# Altium integrated library Philips Discrete JFET.IntLib: 50 symbols
Pins are listed as number, name and electrical type; pins without a type are passive.

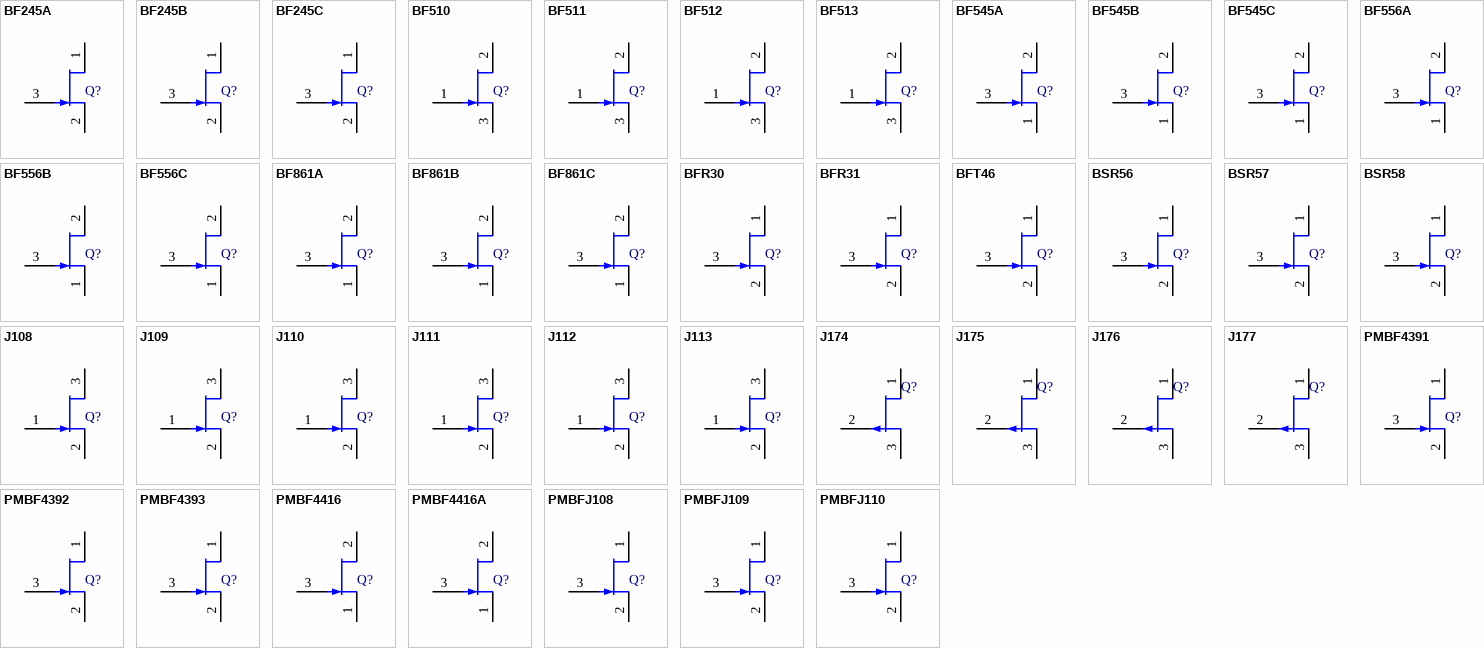
[diagram p0: symbols BF245A to PMBFJ110]

## BF245A
designator Q?
N-channel Silicon Junction Field-effect Transistor; Published: 17-Sep-2003; DatasheetVersion: 30-Jul-1996; PackageVersion: rev3, May-2000; PackageReference: SOT54; Publisher: Altium Limited; PackageDescription: TO, Flat Index; 3 In-Line, Axial Leads; Body Dia. 4.6mm; Leads 0.48 x 0.45 mm (max); Code_JEDEC: TO-92; ComponentLink1Description: Manufacturer Link; ComponentLink1URL: http://www.semiconductors.philips.com/; ComponentLink2Description: Datasheet; ComponentLink2URL: http://www.semiconductors.philips.com/acrobat/datasheets/BF245A-B-C_2.pdf
footprint SOT54 (TO, Flat Index; 3 In-Line, Axial Leads; Body Dia. 4.6mm; Leads 0.48 x 0.45 mm (max))
simulation model BF245A (NJFET)
pins: 1 D, 2 S, 3 G

## BF245B
designator Q?
N-channel Silicon Junction Field-effect Transistor; Published: 17-Sep-2003; DatasheetVersion: 30-Jul-1996; PackageVersion: rev3, May-2000; PackageReference: SOT54; Publisher: Altium Limited; PackageDescription: TO, Flat Index; 3 In-Line, Axial Leads; Body Dia. 4.6mm; Leads 0.48 x 0.45 mm (max); Code_JEDEC: TO-92; ComponentLink1Description: Manufacturer Link; ComponentLink1URL: http://www.semiconductors.philips.com/; ComponentLink2Description: Datasheet; ComponentLink2URL: http://www.semiconductors.philips.com/acrobat/datasheets/BF245A-B-C_2.pdf
footprint SOT54 (TO, Flat Index; 3 In-Line, Axial Leads; Body Dia. 4.6mm; Leads 0.48 x 0.45 mm (max))
simulation model BF245B (NJFET)
pins: 1 D, 2 S, 3 G

## BF245C
designator Q?
N-channel Silicon Junction Field-effect Transistor; Published: 17-Sep-2003; DatasheetVersion: 30-Jul-1996; PackageVersion: rev3, May-2000; PackageReference: SOT54; Publisher: Altium Limited; PackageDescription: TO, Flat Index; 3 In-Line, Axial Leads; Body Dia. 4.6mm; Leads 0.48 x 0.45 mm (max); Code_JEDEC: TO-92; ComponentLink1Description: Manufacturer Link; ComponentLink1URL: http://www.semiconductors.philips.com/; ComponentLink2Description: Datasheet; ComponentLink2URL: http://www.semiconductors.philips.com/acrobat/datasheets/BF245A-B-C_2.pdf
footprint SOT54 (TO, Flat Index; 3 In-Line, Axial Leads; Body Dia. 4.6mm; Leads 0.48 x 0.45 mm (max))
simulation model BF245C (NJFET)
pins: 1 D, 2 S, 3 G

## BF510
designator Q?
N-channel Silicon Junction Field-effect Transistor; Published: 17-Sep-2003; DatasheetVersion: Dec-1997; PackageVersion: May-1999; PackageReference: SOT23; Publisher: Altium Limited; PackageDescription: SOT-23; 3 Leads; Body 3.0 x 2.5 mm, inc. leads (LxW max); ComponentLink1Description: Manufacturer Link; ComponentLink1URL: http://www.semiconductors.philips.com/; ComponentLink2Description: Datasheet; ComponentLink2URL: http://www.semiconductors.philips.com/acrobat/datasheets/BF510_511_512_513_CNV_2.pdf
footprint SOT23 (SOT-23; 3 Leads; Body 3.0 x 2.5 mm, inc. leads (LxW max))
simulation model BF510 (NJFET)
pins: 1 G, 2 D, 3 S

## BF511
designator Q?
N-channel Silicon Junction Field-effect Transistor; Published: 17-Sep-2003; DatasheetVersion: Dec-1997; PackageVersion: May-1999; PackageReference: SOT23; Publisher: Altium Limited; PackageDescription: SOT-23; 3 Leads; Body 3.0 x 2.5 mm, inc. leads (LxW max); ComponentLink1Description: Manufacturer Link; ComponentLink1URL: http://www.semiconductors.philips.com/; ComponentLink2Description: Datasheet; ComponentLink2URL: http://www.semiconductors.philips.com/acrobat/datasheets/BF510_511_512_513_CNV_2.pdf
footprint SOT23 (SOT-23; 3 Leads; Body 3.0 x 2.5 mm, inc. leads (LxW max))
simulation model BF511 (NJFET)
pins: 1 G, 2 D, 3 S

## BF512
designator Q?
N-channel Silicon Junction Field-effect Transistor; Published: 17-Sep-2003; DatasheetVersion: Dec-1997; PackageVersion: May-1999; PackageReference: SOT23; Publisher: Altium Limited; PackageDescription: SOT-23; 3 Leads; Body 3.0 x 2.5 mm, inc. leads (LxW max); ComponentLink1Description: Manufacturer Link; ComponentLink1URL: http://www.semiconductors.philips.com/; ComponentLink2Description: Datasheet; ComponentLink2URL: http://www.semiconductors.philips.com/acrobat/datasheets/BF510_511_512_513_CNV_2.pdf
footprint SOT23 (SOT-23; 3 Leads; Body 3.0 x 2.5 mm, inc. leads (LxW max))
simulation model BF512 (NJFET)
pins: 1 G, 2 D, 3 S

## BF513
designator Q?
N-channel Silicon Junction Field-effect Transistor; Published: 17-Sep-2003; DatasheetVersion: Dec-1997; PackageVersion: May-1999; PackageReference: SOT23; Publisher: Altium Limited; PackageDescription: SOT-23; 3 Leads; Body 3.0 x 2.5 mm, inc. leads (LxW max); ComponentLink1Description: Manufacturer Link; ComponentLink1URL: http://www.semiconductors.philips.com/; ComponentLink2Description: Datasheet; ComponentLink2URL: http://www.semiconductors.philips.com/acrobat/datasheets/BF510_511_512_513_CNV_2.pdf
footprint SOT23 (SOT-23; 3 Leads; Body 3.0 x 2.5 mm, inc. leads (LxW max))
simulation model BF513 (NJFET)
pins: 1 G, 2 D, 3 S

## BF545A
designator Q?
N-channel Silicon Junction Field-effect Transistor; Published: 17-Sep-2003; DatasheetVersion: 29-Jul-1996; PackageVersion: May-1999; PackageReference: SOT23; Publisher: Altium Limited; PackageDescription: SOT-23; 3 Leads; Body 3.0 x 2.5 mm, inc. leads (LxW max); ComponentLink1Description: Manufacturer Link; ComponentLink1URL: http://www.semiconductors.philips.com/; ComponentLink2Description: Datasheet; ComponentLink2URL: http://www.semiconductors.philips.com/acrobat/datasheets/BF545A_BF545B_BF545C_3.pdf
footprint SOT23 (SOT-23; 3 Leads; Body 3.0 x 2.5 mm, inc. leads (LxW max))
simulation model BF545A (NJFET)
pins: 1 S, 2 D, 3 G

## BF545B
designator Q?
N-channel Silicon Junction Field-effect Transistor; Published: 17-Sep-2003; DatasheetVersion: 29-Jul-1996; PackageVersion: May-1999; PackageReference: SOT23; Publisher: Altium Limited; PackageDescription: SOT-23; 3 Leads; Body 3.0 x 2.5 mm, inc. leads (LxW max); ComponentLink1Description: Manufacturer Link; ComponentLink1URL: http://www.semiconductors.philips.com/; ComponentLink2Description: Datasheet; ComponentLink2URL: http://www.semiconductors.philips.com/acrobat/datasheets/BF545A_BF545B_BF545C_3.pdf
footprint SOT23 (SOT-23; 3 Leads; Body 3.0 x 2.5 mm, inc. leads (LxW max))
simulation model BF545B (NJFET)
pins: 1 S, 2 D, 3 G

## BF545C
designator Q?
N-channel Silicon Junction Field-effect Transistor; Published: 17-Sep-2003; DatasheetVersion: 29-Jul-1996; PackageVersion: May-1999; PackageReference: SOT23; Publisher: Altium Limited; PackageDescription: SOT-23; 3 Leads; Body 3.0 x 2.5 mm, inc. leads (LxW max); ComponentLink1Description: Manufacturer Link; ComponentLink1URL: http://www.semiconductors.philips.com/; ComponentLink2Description: Datasheet; ComponentLink2URL: http://www.semiconductors.philips.com/acrobat/datasheets/BF545A_BF545B_BF545C_3.pdf
footprint SOT23 (SOT-23; 3 Leads; Body 3.0 x 2.5 mm, inc. leads (LxW max))
simulation model BF545C (NJFET)
pins: 1 S, 2 D, 3 G

## BF556A
designator Q?
N-channel Silicon Junction Field-effect Transistor; Published: 17-Sep-2003; DatasheetVersion: 29-Jul-1996; PackageVersion: May-1999; PackageReference: SOT23; Publisher: Altium Limited; PackageDescription: SOT-23; 3 Leads; Body 3.0 x 2.5 mm, inc. leads (LxW max); ComponentLink1Description: Manufacturer Link; ComponentLink1URL: http://www.semiconductors.philips.com/; ComponentLink2Description: Datasheet; ComponentLink2URL: http://www.semiconductors.philips.com/acrobat/datasheets/BF556A_BF556B_BF556C_3.pdf
footprint SOT23 (SOT-23; 3 Leads; Body 3.0 x 2.5 mm, inc. leads (LxW max))
simulation model BF556A (NJFET)
pins: 1 S, 2 D, 3 G

## BF556B
designator Q?
N-channel Silicon Junction Field-effect Transistor; Published: 17-Sep-2003; DatasheetVersion: 29-Jul-1996; PackageVersion: May-1999; PackageReference: SOT23; Publisher: Altium Limited; PackageDescription: SOT-23; 3 Leads; Body 3.0 x 2.5 mm, inc. leads (LxW max); ComponentLink1Description: Manufacturer Link; ComponentLink1URL: http://www.semiconductors.philips.com/; ComponentLink2Description: Datasheet; ComponentLink2URL: http://www.semiconductors.philips.com/acrobat/datasheets/BF556A_BF556B_BF556C_3.pdf
footprint SOT23 (SOT-23; 3 Leads; Body 3.0 x 2.5 mm, inc. leads (LxW max))
simulation model BF556B (NJFET)
pins: 1 S, 2 D, 3 G

## BF556C
designator Q?
N-channel Silicon Junction Field-effect Transistor; Published: 17-Sep-2003; DatasheetVersion: 29-Jul-1996; PackageVersion: May-1999; PackageReference: SOT23; Publisher: Altium Limited; PackageDescription: SOT-23; 3 Leads; Body 3.0 x 2.5 mm, inc. leads (LxW max); ComponentLink1Description: Manufacturer Link; ComponentLink1URL: http://www.semiconductors.philips.com/; ComponentLink2Description: Datasheet; ComponentLink2URL: http://www.semiconductors.philips.com/acrobat/datasheets/BF556A_BF556B_BF556C_3.pdf
footprint SOT23 (SOT-23; 3 Leads; Body 3.0 x 2.5 mm, inc. leads (LxW max))
pins: 1 S, 2 D, 3 G

## BF861A
designator Q?
N-channel Junction Field-effect Transistor; Published: 17-Sep-2003; DatasheetVersion: 4-Sep-1997; PackageVersion: May-1999; PackageReference: SOT23; Publisher: Altium Limited; PackageDescription: SOT-23; 3 Leads; Body 3.0 x 2.5 mm, inc. leads (LxW max); ComponentLink1Description: Manufacturer Link; ComponentLink1URL: http://www.semiconductors.philips.com/; ComponentLink2Description: Datasheet; ComponentLink2URL: http://www.semiconductors.philips.com/acrobat/datasheets/BF861A_BF861B_BF861C_4.pdf
footprint SOT23 (SOT-23; 3 Leads; Body 3.0 x 2.5 mm, inc. leads (LxW max))
simulation model BF861A (NJFET)
pins: 1 S, 2 D, 3 G

## BF861B
designator Q?
N-channel Junction Field-effect Transistor; Published: 17-Sep-2003; DatasheetVersion: 4-Sep-1997; PackageVersion: May-1999; PackageReference: SOT23; Publisher: Altium Limited; PackageDescription: SOT-23; 3 Leads; Body 3.0 x 2.5 mm, inc. leads (LxW max); ComponentLink1Description: Manufacturer Link; ComponentLink1URL: http://www.semiconductors.philips.com/; ComponentLink2Description: Datasheet; ComponentLink2URL: http://www.semiconductors.philips.com/acrobat/datasheets/BF861A_BF861B_BF861C_4.pdf
footprint SOT23 (SOT-23; 3 Leads; Body 3.0 x 2.5 mm, inc. leads (LxW max))
simulation model BF861B (NJFET)
pins: 1 S, 2 D, 3 G

## BF861C
designator Q?
N-channel Junction Field-effect Transistor; Published: 17-Sep-2003; DatasheetVersion: 4-Sep-1997; PackageVersion: May-1999; PackageReference: SOT23; Publisher: Altium Limited; PackageDescription: SOT-23; 3 Leads; Body 3.0 x 2.5 mm, inc. leads (LxW max); ComponentLink1Description: Manufacturer Link; ComponentLink1URL: http://www.semiconductors.philips.com/; ComponentLink2Description: Datasheet; ComponentLink2URL: http://www.semiconductors.philips.com/acrobat/datasheets/BF861A_BF861B_BF861C_4.pdf
footprint SOT23 (SOT-23; 3 Leads; Body 3.0 x 2.5 mm, inc. leads (LxW max))
simulation model BF861C (NJFET)
pins: 1 S, 2 D, 3 G

## BFR30
designator Q?
N-channel Junction Field-effect Transistors; Published: 17-Sep-2003; DatasheetVersion: 5-Dec-1997; PackageVersion: May-1999; PackageReference: SOT23; Publisher: Altium Limited; PackageDescription: SOT-23; 3 Leads; Body 3.0 x 2.5 mm, inc. leads (LxW max); ComponentLink1Description: Manufacturer Link; ComponentLink1URL: http://www.semiconductors.philips.com/; ComponentLink2Description: Datasheet; ComponentLink2URL: http://www.semiconductors.philips.com/acrobat/datasheets/BFR30-31_2.pdf
footprint SOT23 (SOT-23; 3 Leads; Body 3.0 x 2.5 mm, inc. leads (LxW max))
simulation model BFR30 (NJFET)
pins: 1 D, 2 S, 3 G

## BFR31
designator Q?
N-channel Junction Field-effect Transistors; Published: 17-Sep-2003; DatasheetVersion: 5-Dec-1997; PackageVersion: May-1999; PackageReference: SOT23; Publisher: Altium Limited; PackageDescription: SOT-23; 3 Leads; Body 3.0 x 2.5 mm, inc. leads (LxW max); ComponentLink1Description: Manufacturer Link; ComponentLink1URL: http://www.semiconductors.philips.com/; ComponentLink2Description: Datasheet; ComponentLink2URL: http://www.semiconductors.philips.com/acrobat/datasheets/BFR30-31_2.pdf
footprint SOT23 (SOT-23; 3 Leads; Body 3.0 x 2.5 mm, inc. leads (LxW max))
simulation model BFR31 (NJFET)
pins: 1 D, 2 S, 3 G

## BFT46
designator Q?
N-channel Silicon Junction Field-effect Transistor; Published: 17-Sep-2003; DatasheetVersion: Dec-1997; PackageVersion: May-1999; PackageReference: SOT23; Publisher: Altium Limited; PackageDescription: SOT-23; 3 Leads; Body 3.0 x 2.5 mm, inc. leads (LxW max); ComponentLink1Description: Manufacturer Link; ComponentLink1URL: http://www.semiconductors.philips.com/; ComponentLink2Description: Datasheet; ComponentLink2URL: http://www.semiconductors.philips.com/acrobat/datasheets/BFT46_CNV_2.pdf
footprint SOT23 (SOT-23; 3 Leads; Body 3.0 x 2.5 mm, inc. leads (LxW max))
simulation model BFT46 (NJFET)
pins: 1 D, 2 S, 3 G

## BSR56
designator Q?
N-channel Silicon Junction Field-effect Transistor; Published: 17-Sep-2003; DatasheetVersion: Apr-1991; PackageVersion: May-1999; PackageReference: SOT23; Publisher: Altium Limited; PackageDescription: SOT-23; 3 Leads; Body 3.0 x 2.5 mm, inc. leads (LxW max); ComponentLink1Description: Manufacturer Link; ComponentLink1URL: http://www.semiconductors.philips.com/; ComponentLink2Description: Datasheet; ComponentLink2URL: http://www.semiconductors.philips.com/acrobat/datasheets/BSR56_57_58_CNV_2.pdf
footprint SOT23 (SOT-23; 3 Leads; Body 3.0 x 2.5 mm, inc. leads (LxW max))
simulation model BSR56 (NJFET)
pins: 1 D, 2 S, 3 G

## BSR57
designator Q?
N-channel Silicon Junction Field-effect Transistor; Published: 17-Sep-2003; DatasheetVersion: Apr-1991; PackageVersion: May-1999; PackageReference: SOT23; Publisher: Altium Limited; PackageDescription: SOT-23; 3 Leads; Body 3.0 x 2.5 mm, inc. leads (LxW max); ComponentLink1Description: Manufacturer Link; ComponentLink1URL: http://www.semiconductors.philips.com/; ComponentLink2Description: Datasheet; ComponentLink2URL: http://www.semiconductors.philips.com/acrobat/datasheets/BSR56_57_58_CNV_2.pdf
footprint SOT23 (SOT-23; 3 Leads; Body 3.0 x 2.5 mm, inc. leads (LxW max))
simulation model BSR57 (NJFET)
pins: 1 D, 2 S, 3 G

## BSR58
designator Q?
N-channel Silicon Junction Field-effect Transistor; Published: 17-Sep-2003; DatasheetVersion: Apr-1991; PackageVersion: May-1999; PackageReference: SOT23; Publisher: Altium Limited; PackageDescription: SOT-23; 3 Leads; Body 3.0 x 2.5 mm, inc. leads (LxW max); ComponentLink1Description: Manufacturer Link; ComponentLink1URL: http://www.semiconductors.philips.com/; ComponentLink2Description: Datasheet; ComponentLink2URL: http://www.semiconductors.philips.com/acrobat/datasheets/BSR56_57_58_CNV_2.pdf
footprint SOT23 (SOT-23; 3 Leads; Body 3.0 x 2.5 mm, inc. leads (LxW max))
simulation model BSR58 (NJFET)
pins: 1 D, 2 S, 3 G

## J108
designator Q?
N-channel Silicon Junction Field-effect Transistor; Published: 17-Sep-2003; DatasheetVersion: 30-Jul-1996; PackageVersion: rev3, May-2000; PackageReference: SOT54; Publisher: Altium Limited; PackageDescription: TO, Flat Index; 3 In-Line, Axial Leads; Body Dia. 4.6mm; Leads 0.48 x 0.45 mm (max); Code_JEDEC: TO-92; ComponentLink1Description: Manufacturer Link; ComponentLink1URL: http://www.semiconductors.philips.com/; ComponentLink2Description: Datasheet; ComponentLink2URL: http://www.semiconductors.philips.com/acrobat/datasheets/J108-9-10_2.pdf
footprint SOT54 (TO, Flat Index; 3 In-Line, Axial Leads; Body Dia. 4.6mm; Leads 0.48 x 0.45 mm (max))
simulation model J108 (NJFET)
pins: 1 G, 2 S, 3 D

## J109
designator Q?
N-channel Silicon Junction Field-effect Transistor; Published: 17-Sep-2003; DatasheetVersion: 30-Jul-1996; PackageVersion: rev3, May-2000; PackageReference: SOT54; Publisher: Altium Limited; PackageDescription: TO, Flat Index; 3 In-Line, Axial Leads; Body Dia. 4.6mm; Leads 0.48 x 0.45 mm (max); Code_JEDEC: TO-92; ComponentLink1Description: Manufacturer Link; ComponentLink1URL: http://www.semiconductors.philips.com/; ComponentLink2Description: Datasheet; ComponentLink2URL: http://www.semiconductors.philips.com/acrobat/datasheets/J108-9-10_2.pdf
footprint SOT54 (TO, Flat Index; 3 In-Line, Axial Leads; Body Dia. 4.6mm; Leads 0.48 x 0.45 mm (max))
simulation model J109 (NJFET)
pins: 1 G, 2 S, 3 D

## J110
designator Q?
N-channel Silicon Junction Field-effect Transistor; Published: 17-Sep-2003; DatasheetVersion: 30-Jul-1996; PackageVersion: rev3, May-2000; PackageReference: SOT54; Publisher: Altium Limited; PackageDescription: TO, Flat Index; 3 In-Line, Axial Leads; Body Dia. 4.6mm; Leads 0.48 x 0.45 mm (max); Code_JEDEC: TO-92; ComponentLink1Description: Manufacturer Link; ComponentLink1URL: http://www.semiconductors.philips.com/; ComponentLink2Description: Datasheet; ComponentLink2URL: http://www.semiconductors.philips.com/acrobat/datasheets/J108-9-10_2.pdf
footprint SOT54 (TO, Flat Index; 3 In-Line, Axial Leads; Body Dia. 4.6mm; Leads 0.48 x 0.45 mm (max))
simulation model J110 (NJFET)
pins: 1 G, 2 S, 3 D

## J111
designator Q?
N-channel Silicon Junction Field-effect Transistor; Published: 17-Sep-2003; DatasheetVersion: Jul-1993; PackageVersion: rev3, May-2000; PackageReference: SOT54; Publisher: Altium Limited; PackageDescription: TO, Flat Index; 3 In-Line, Axial Leads; Body Dia. 4.6mm; Leads 0.48 x 0.45 mm (max); Code_JEDEC: TO-92; ComponentLink1Description: Manufacturer Link; ComponentLink1URL: http://www.semiconductors.philips.com/; ComponentLink2Description: Datasheet; ComponentLink2URL: http://www.semiconductors.philips.com/acrobat/datasheets/J111_112_113_CNV_2.pdf
footprint SOT54 (TO, Flat Index; 3 In-Line, Axial Leads; Body Dia. 4.6mm; Leads 0.48 x 0.45 mm (max))
simulation model J111 (NJFET)
pins: 1 G, 2 S, 3 D

## J112
designator Q?
N-channel Silicon Junction Field-effect Transistor; Published: 17-Sep-2003; DatasheetVersion: Jul-1993; PackageVersion: rev3, May-2000; PackageReference: SOT54; Publisher: Altium Limited; PackageDescription: TO, Flat Index; 3 In-Line, Axial Leads; Body Dia. 4.6mm; Leads 0.48 x 0.45 mm (max); Code_JEDEC: TO-92; ComponentLink1Description: Manufacturer Link; ComponentLink1URL: http://www.semiconductors.philips.com/; ComponentLink2Description: Datasheet; ComponentLink2URL: http://www.semiconductors.philips.com/acrobat/datasheets/J111_112_113_CNV_2.pdf
footprint SOT54 (TO, Flat Index; 3 In-Line, Axial Leads; Body Dia. 4.6mm; Leads 0.48 x 0.45 mm (max))
simulation model J112 (NJFET)
pins: 1 G, 2 S, 3 D

## J113
designator Q?
N-channel Silicon Junction Field-effect Transistor; Published: 17-Sep-2003; DatasheetVersion: Jul-1993; PackageVersion: rev3, May-2000; PackageReference: SOT54; Publisher: Altium Limited; PackageDescription: TO, Flat Index; 3 In-Line, Axial Leads; Body Dia. 4.6mm; Leads 0.48 x 0.45 mm (max); Code_JEDEC: TO-92; ComponentLink1Description: Manufacturer Link; ComponentLink1URL: http://www.semiconductors.philips.com/; ComponentLink2Description: Datasheet; ComponentLink2URL: http://www.semiconductors.philips.com/acrobat/datasheets/J111_112_113_CNV_2.pdf
footprint SOT54 (TO, Flat Index; 3 In-Line, Axial Leads; Body Dia. 4.6mm; Leads 0.48 x 0.45 mm (max))
simulation model J113 (NJFET)
pins: 1 G, 2 S, 3 D

## J174
designator Q?
P-channel Silicon Junction Field-effect Transistor; Published: 17-Sep-2003; DatasheetVersion: Apr-1995; PackageVersion: rev3, May-2000; PackageReference: SOT54; Publisher: Altium Limited; PackageDescription: TO, Flat Index; 3 In-Line, Axial Leads; Body Dia. 4.6mm; Leads 0.48 x 0.45 mm (max); Code_JEDEC: TO-92; ComponentLink1Description: Manufacturer Link; ComponentLink1URL: http://www.semiconductors.philips.com/; ComponentLink2Description: Datasheet; ComponentLink2URL: http://www.semiconductors.philips.com/acrobat/datasheets/J174_175_176_177_CNV_2.pdf
footprint SOT54 (TO, Flat Index; 3 In-Line, Axial Leads; Body Dia. 4.6mm; Leads 0.48 x 0.45 mm (max))
simulation model J174 (PJFET)
pins: 1 S, 2 G, 3 D

## J175
designator Q?
P-channel Silicon Junction Field-effect Transistor; Published: 17-Sep-2003; DatasheetVersion: Apr-1995; PackageVersion: rev3, May-2000; PackageReference: SOT54; Publisher: Altium Limited; PackageDescription: TO, Flat Index; 3 In-Line, Axial Leads; Body Dia. 4.6mm; Leads 0.48 x 0.45 mm (max); Code_JEDEC: TO-92; ComponentLink1Description: Manufacturer Link; ComponentLink1URL: http://www.semiconductors.philips.com/; ComponentLink2Description: Datasheet; ComponentLink2URL: http://www.semiconductors.philips.com/acrobat/datasheets/J174_175_176_177_CNV_2.pdf
footprint SOT54 (TO, Flat Index; 3 In-Line, Axial Leads; Body Dia. 4.6mm; Leads 0.48 x 0.45 mm (max))
simulation model J175 (PJFET)
pins: 1 S, 2 G, 3 D

## J176
designator Q?
P-channel Silicon Junction Field-effect Transistor; Published: 17-Sep-2003; DatasheetVersion: Apr-1995; PackageVersion: rev3, May-2000; PackageReference: SOT54; Publisher: Altium Limited; PackageDescription: TO, Flat Index; 3 In-Line, Axial Leads; Body Dia. 4.6mm; Leads 0.48 x 0.45 mm (max); Code_JEDEC: TO-92; ComponentLink1Description: Manufacturer Link; ComponentLink1URL: http://www.semiconductors.philips.com/; ComponentLink2Description: Datasheet; ComponentLink2URL: http://www.semiconductors.philips.com/acrobat/datasheets/J174_175_176_177_CNV_2.pdf
footprint SOT54 (TO, Flat Index; 3 In-Line, Axial Leads; Body Dia. 4.6mm; Leads 0.48 x 0.45 mm (max))
simulation model J176 (PJFET)
pins: 1 S, 2 G, 3 D

## J177
designator Q?
P-channel Silicon Junction Field-effect Transistor; Published: 17-Sep-2003; DatasheetVersion: Apr-1995; PackageVersion: rev3, May-2000; PackageReference: SOT54; Publisher: Altium Limited; PackageDescription: TO, Flat Index; 3 In-Line, Axial Leads; Body Dia. 4.6mm; Leads 0.48 x 0.45 mm (max); Code_JEDEC: TO-92; ComponentLink1Description: Manufacturer Link; ComponentLink1URL: http://www.semiconductors.philips.com/; ComponentLink2Description: Datasheet; ComponentLink2URL: http://www.semiconductors.philips.com/acrobat/datasheets/J174_175_176_177_CNV_2.pdf
footprint SOT54 (TO, Flat Index; 3 In-Line, Axial Leads; Body Dia. 4.6mm; Leads 0.48 x 0.45 mm (max))
simulation model J177 (PJFET)
pins: 1 S, 2 G, 3 D

## PMBF4391
designator Q?
N-channel Silicon Junction Field-effect Transistor; Published: 17-Sep-2003; DatasheetVersion: Apr-1995; PackageVersion: May-1999; PackageReference: SOT23; Publisher: Altium Limited; PackageDescription: SOT-23; 3 Leads; Body 3.0 x 2.5 mm, inc. leads (LxW max); ComponentLink1Description: Manufacturer Link; ComponentLink1URL: http://www.semiconductors.philips.com/; ComponentLink2Description: Datasheet; ComponentLink2URL: http://www.semiconductors.philips.com/acrobat/datasheets/PMBF4391_4392_4393_CNV_2.pdf
footprint SOT23 (SOT-23; 3 Leads; Body 3.0 x 2.5 mm, inc. leads (LxW max))
simulation model PMBF4391 (NJFET)
pins: 1 D, 2 S, 3 G

## PMBF4392
designator Q?
N-channel Silicon Junction Field-effect Transistor; Published: 17-Sep-2003; DatasheetVersion: Apr-1995; PackageVersion: May-1999; PackageReference: SOT23; Publisher: Altium Limited; PackageDescription: SOT-23; 3 Leads; Body 3.0 x 2.5 mm, inc. leads (LxW max); ComponentLink1Description: Manufacturer Link; ComponentLink1URL: http://www.semiconductors.philips.com/; ComponentLink2Description: Datasheet; ComponentLink2URL: http://www.semiconductors.philips.com/acrobat/datasheets/PMBF4391_4392_4393_CNV_2.pdf
footprint SOT23 (SOT-23; 3 Leads; Body 3.0 x 2.5 mm, inc. leads (LxW max))
simulation model PMBF4392 (NJFET)
pins: 1 D, 2 S, 3 G

## PMBF4393
designator Q?
N-channel Silicon Junction Field-effect Transistor; Published: 17-Sep-2003; DatasheetVersion: Apr-1995; PackageVersion: May-1999; PackageReference: SOT23; Publisher: Altium Limited; PackageDescription: SOT-23; 3 Leads; Body 3.0 x 2.5 mm, inc. leads (LxW max); ComponentLink1Description: Manufacturer Link; ComponentLink1URL: http://www.semiconductors.philips.com/; ComponentLink2Description: Datasheet; ComponentLink2URL: http://www.semiconductors.philips.com/acrobat/datasheets/PMBF4391_4392_4393_CNV_2.pdf
footprint SOT23 (SOT-23; 3 Leads; Body 3.0 x 2.5 mm, inc. leads (LxW max))
simulation model PMBF4393 (NJFET)
pins: 1 D, 2 S, 3 G

## PMBF4416
designator Q?
N-channel Silicon Junction Field-effect Transistor; ComponentAvailability: Obsolete; Published: 17-Sep-2003; DatasheetVersion: Apr-1995; PackageVersion: May-1999; PackageReference: SOT23; Publisher: Altium Limited; PackageDescription: SOT-23; 3 Leads; Body 3.0 x 2.5 mm, inc. leads (LxW max); ComponentLink1Description: Manufacturer Link; ComponentLink1URL: http://www.semiconductors.philips.com/
footprint SOT23 (SOT-23; 3 Leads; Body 3.0 x 2.5 mm, inc. leads (LxW max))
simulation model PMBF4416 (NJFET)
pins: 1 S, 2 D, 3 G

## PMBF4416A
designator Q?
N-channel Silicon Junction Field-effect Transistor; ComponentAvailability: Obsolete; Published: 17-Sep-2003; DatasheetVersion: Apr-1995; PackageVersion: May-1999; PackageReference: SOT23; Publisher: Altium Limited; PackageDescription: SOT-23; 3 Leads; Body 3.0 x 2.5 mm, inc. leads (LxW max); ComponentLink1Description: Manufacturer Link; ComponentLink1URL: http://www.semiconductors.philips.com/
footprint SOT23 (SOT-23; 3 Leads; Body 3.0 x 2.5 mm, inc. leads (LxW max))
simulation model PMBF4416A (NJFET)
pins: 1 S, 2 D, 3 G

## PMBFJ108
designator Q?
N-channel Junction Field-effect Transistor; Published: 17-Sep-2003; DatasheetVersion: Apr-1995; PackageVersion: May-1999; PackageReference: SOT23; Publisher: Altium Limited; PackageDescription: SOT-23; 3 Leads; Body 3.0 x 2.5 mm, inc. leads (LxW max); ComponentLink1Description: Manufacturer Link; ComponentLink1URL: http://www.semiconductors.philips.com/; ComponentLink2Description: Datasheet; ComponentLink2URL: http://www.semiconductors.philips.com/acrobat/datasheets/PMBFJ108_109_110_3.pdf
footprint SOT23 (SOT-23; 3 Leads; Body 3.0 x 2.5 mm, inc. leads (LxW max))
simulation model PMBFJ108 (NJFET)
pins: 1 D, 2 S, 3 G

## PMBFJ109
designator Q?
N-channel Junction Field-effect Transistor; Published: 17-Sep-2003; DatasheetVersion: Apr-1995; PackageVersion: May-1999; PackageReference: SOT23; Publisher: Altium Limited; PackageDescription: SOT-23; 3 Leads; Body 3.0 x 2.5 mm, inc. leads (LxW max); ComponentLink1Description: Manufacturer Link; ComponentLink1URL: http://www.semiconductors.philips.com/; ComponentLink2Description: Datasheet; ComponentLink2URL: http://www.semiconductors.philips.com/acrobat/datasheets/PMBFJ108_109_110_3.pdf
footprint SOT23 (SOT-23; 3 Leads; Body 3.0 x 2.5 mm, inc. leads (LxW max))
simulation model PMBFJ109 (NJFET)
pins: 1 D, 2 S, 3 G

## PMBFJ110
designator Q?
N-channel Junction Field-effect Transistor; Published: 17-Sep-2003; DatasheetVersion: Apr-1995; PackageVersion: May-1999; PackageReference: SOT23; Publisher: Altium Limited; PackageDescription: SOT-23; 3 Leads; Body 3.0 x 2.5 mm, inc. leads (LxW max); ComponentLink1Description: Manufacturer Link; ComponentLink1URL: http://www.semiconductors.philips.com/; ComponentLink2Description: Datasheet; ComponentLink2URL: http://www.semiconductors.philips.com/acrobat/datasheets/PMBFJ108_109_110_3.pdf
footprint SOT23 (SOT-23; 3 Leads; Body 3.0 x 2.5 mm, inc. leads (LxW max))
simulation model PMBFJ110 (NJFET)
pins: 1 D, 2 S, 3 G

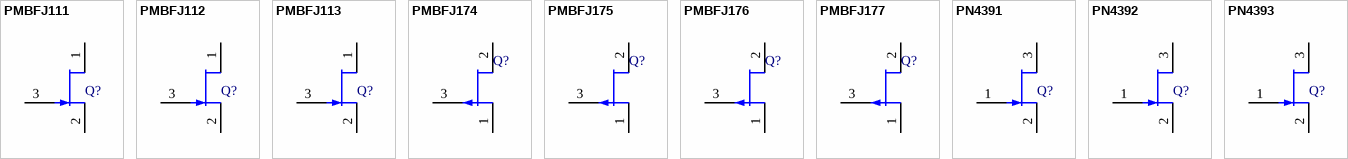
[diagram p1: symbols PMBFJ111 to PN4393]

## PMBFJ111
designator Q?
N-channel Junction Field-effect Transistor; Published: 17-Sep-2003; DatasheetVersion: Apr-1995; PackageVersion: May-1999; PackageReference: SOT23; Publisher: Altium Limited; PackageDescription: SOT-23; 3 Leads; Body 3.0 x 2.5 mm, inc. leads (LxW max); ComponentLink1Description: Manufacturer Link; ComponentLink1URL: http://www.semiconductors.philips.com/; ComponentLink2Description: Datasheet; ComponentLink2URL: http://www.semiconductors.philips.com/acrobat/datasheets/PMBFJ111_112_113_3.pdf
footprint SOT23 (SOT-23; 3 Leads; Body 3.0 x 2.5 mm, inc. leads (LxW max))
simulation model PMBFJ111 (NJFET)
pins: 1 D, 2 S, 3 G

## PMBFJ112
designator Q?
N-channel Junction Field-effect Transistor; Published: 17-Sep-2003; DatasheetVersion: Apr-1995; PackageVersion: May-1999; PackageReference: SOT23; Publisher: Altium Limited; PackageDescription: SOT-23; 3 Leads; Body 3.0 x 2.5 mm, inc. leads (LxW max); ComponentLink1Description: Manufacturer Link; ComponentLink1URL: http://www.semiconductors.philips.com/; ComponentLink2Description: Datasheet; ComponentLink2URL: http://www.semiconductors.philips.com/acrobat/datasheets/PMBFJ111_112_113_3.pdf
footprint SOT23 (SOT-23; 3 Leads; Body 3.0 x 2.5 mm, inc. leads (LxW max))
simulation model PMBFJ112 (NJFET)
pins: 1 D, 2 S, 3 G

## PMBFJ113
designator Q?
N-channel Junction Field-effect Transistor; Published: 17-Sep-2003; DatasheetVersion: Apr-1995; PackageVersion: May-1999; PackageReference: SOT23; Publisher: Altium Limited; PackageDescription: SOT-23; 3 Leads; Body 3.0 x 2.5 mm, inc. leads (LxW max); ComponentLink1Description: Manufacturer Link; ComponentLink1URL: http://www.semiconductors.philips.com/; ComponentLink2Description: Datasheet; ComponentLink2URL: http://www.semiconductors.philips.com/acrobat/datasheets/PMBFJ111_112_113_3.pdf
footprint SOT23 (SOT-23; 3 Leads; Body 3.0 x 2.5 mm, inc. leads (LxW max))
simulation model PMBFJ113 (NJFET)
pins: 1 D, 2 S, 3 G

## PMBFJ174
designator Q?
P-channel Silicon Junction Field-effect Transistor; Published: 17-Sep-2003; DatasheetVersion: Apr-1995; PackageVersion: May-1999; PackageReference: SOT23; Publisher: Altium Limited; PackageDescription: SOT-23; 3 Leads; Body 3.0 x 2.5 mm, inc. leads (LxW max); ComponentLink1Description: Manufacturer Link; ComponentLink1URL: http://www.semiconductors.philips.com/; ComponentLink2Description: Datasheet; ComponentLink2URL: http://www.semiconductors.philips.com/acrobat/datasheets/PMBFJ174_175_176_177_CNV_2.pdf
footprint SOT23 (SOT-23; 3 Leads; Body 3.0 x 2.5 mm, inc. leads (LxW max))
simulation model PMBFJ174 (PJFET)
pins: 1 D, 2 S, 3 G

## PMBFJ175
designator Q?
P-channel Silicon Junction Field-effect Transistor; Published: 17-Sep-2003; DatasheetVersion: Apr-1995; PackageVersion: May-1999; PackageReference: SOT23; Publisher: Altium Limited; PackageDescription: SOT-23; 3 Leads; Body 3.0 x 2.5 mm, inc. leads (LxW max); ComponentLink1Description: Manufacturer Link; ComponentLink1URL: http://www.semiconductors.philips.com/; ComponentLink2Description: Datasheet; ComponentLink2URL: http://www.semiconductors.philips.com/acrobat/datasheets/PMBFJ174_175_176_177_CNV_2.pdf
footprint SOT23 (SOT-23; 3 Leads; Body 3.0 x 2.5 mm, inc. leads (LxW max))
simulation model PMBFJ175 (PJFET)
pins: 1 D, 2 S, 3 G

## PMBFJ176
designator Q?
P-channel Silicon Junction Field-effect Transistor; Published: 17-Sep-2003; DatasheetVersion: Apr-1995; PackageVersion: May-1999; PackageReference: SOT23; Publisher: Altium Limited; PackageDescription: SOT-23; 3 Leads; Body 3.0 x 2.5 mm, inc. leads (LxW max); ComponentLink1Description: Manufacturer Link; ComponentLink1URL: http://www.semiconductors.philips.com/; ComponentLink2Description: Datasheet; ComponentLink2URL: http://www.semiconductors.philips.com/acrobat/datasheets/PMBFJ174_175_176_177_CNV_2.pdf
footprint SOT23 (SOT-23; 3 Leads; Body 3.0 x 2.5 mm, inc. leads (LxW max))
simulation model PMBFJ176 (PJFET)
pins: 1 D, 2 S, 3 G

## PMBFJ177
designator Q?
P-channel Silicon Junction Field-effect Transistor; Published: 17-Sep-2003; DatasheetVersion: Apr-1995; PackageVersion: May-1999; PackageReference: SOT23; Publisher: Altium Limited; PackageDescription: SOT-23; 3 Leads; Body 3.0 x 2.5 mm, inc. leads (LxW max); ComponentLink1Description: Manufacturer Link; ComponentLink1URL: http://www.semiconductors.philips.com/; ComponentLink2Description: Datasheet; ComponentLink2URL: http://www.semiconductors.philips.com/acrobat/datasheets/PMBFJ174_175_176_177_CNV_2.pdf
footprint SOT23 (SOT-23; 3 Leads; Body 3.0 x 2.5 mm, inc. leads (LxW max))
simulation model PMBFJ177 (PJFET)
pins: 1 D, 2 S, 3 G

## PN4391
designator Q?
N-channel Silicon Junction Field-effect Transistor; ComponentAvailability: Not for New Design; Published: 17-Sep-2003; DatasheetVersion: Apr-1989; PackageVersion: rev3, May-2000; PackageReference: SOT54; Publisher: Altium Limited; PackageDescription: TO, Flat Index; 3 In-Line, Axial Leads; Body Dia. 4.6mm; Leads 0.48 x 0.45 mm (max); Code_JEDEC: TO-92; ComponentLink1Description: Manufacturer Link; ComponentLink1URL: http://www.semiconductors.philips.com/; ComponentLink2Description: Datasheet; ComponentLink2URL: http://www.semiconductors.philips.com/acrobat/datasheets/PN4391_4392_4393_CNV_2.pdf; ComponentLink3Description: Discontinuation Notice; ComponentLink3URL: http://www.semiconductors.philips.com/pip/PN4391_4392_4393_CNV_2.html
footprint SOT54 (TO, Flat Index; 3 In-Line, Axial Leads; Body Dia. 4.6mm; Leads 0.48 x 0.45 mm (max))
simulation model PN4391 (NJFET)
pins: 1 G, 2 S, 3 D

## PN4392
designator Q?
N-channel Silicon Junction Field-effect Transistor; ComponentAvailability: Not for New Design; Published: 17-Sep-2003; DatasheetVersion: Apr-1989; PackageVersion: rev3, May-2000; PackageReference: SOT54; Publisher: Altium Limited; PackageDescription: TO, Flat Index; 3 In-Line, Axial Leads; Body Dia. 4.6mm; Leads 0.48 x 0.45 mm (max); Code_JEDEC: TO-92; ComponentLink1Description: Manufacturer Link; ComponentLink1URL: http://www.semiconductors.philips.com/; ComponentLink2Description: Datasheet; ComponentLink2URL: http://www.semiconductors.philips.com/acrobat/datasheets/PN4391_4392_4393_CNV_2.pdf; ComponentLink3Description: Discontinuation Notice; ComponentLink3URL: http://www.semiconductors.philips.com/pip/PN4391_4392_4393_CNV_2.html
footprint SOT54 (TO, Flat Index; 3 In-Line, Axial Leads; Body Dia. 4.6mm; Leads 0.48 x 0.45 mm (max))
simulation model PN4392 (NJFET)
pins: 1 G, 2 S, 3 D

## PN4393
designator Q?
N-channel Silicon Junction Field-effect Transistor; ComponentAvailability: Not for New Design; Published: 17-Sep-2003; DatasheetVersion: Apr-1989; PackageVersion: rev3, May-2000; PackageReference: SOT54; Publisher: Altium Limited; PackageDescription: TO, Flat Index; 3 In-Line, Axial Leads; Body Dia. 4.6mm; Leads 0.48 x 0.45 mm (max); Code_JEDEC: TO-92; ComponentLink1Description: Manufacturer Link; ComponentLink1URL: http://www.semiconductors.philips.com/; ComponentLink2Description: Datasheet; ComponentLink2URL: http://www.semiconductors.philips.com/acrobat/datasheets/PN4391_4392_4393_CNV_2.pdf; ComponentLink3Description: Discontinuation Notice; ComponentLink3URL: http://www.semiconductors.philips.com/pip/PN4391_4392_4393_CNV_2.html
footprint SOT54 (TO, Flat Index; 3 In-Line, Axial Leads; Body Dia. 4.6mm; Leads 0.48 x 0.45 mm (max))
simulation model PN4393 (NJFET)
pins: 1 G, 2 S, 3 D